# EAGLE library part AS-ITM-00054 (library tinycircuits)
W2SG0008i GPS Module
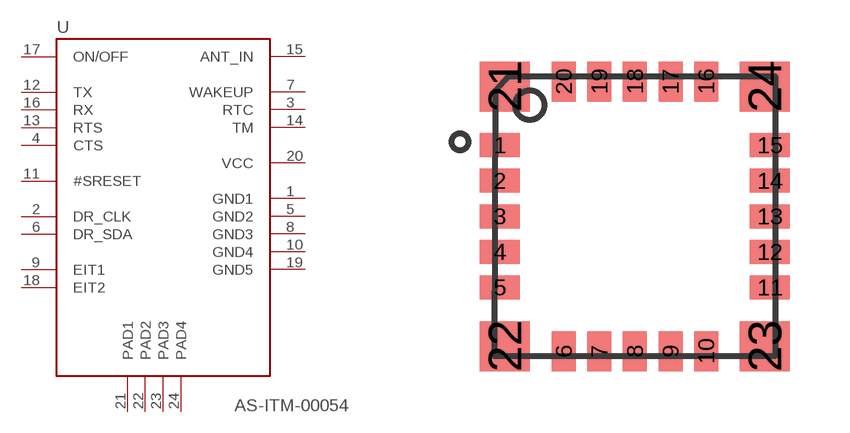
[diagram p27: symbol with the pads of W2SG0008I; footprint W2SG0008I]

Designator prefix U

## AS-ITM-00054 (PARTNO: AS-ITM-00054; VALUE: W2SG0008i)  [W2SG0008I]
1  GND1  pwr
2  DR_CLK
3  RTC
4  CTS
5  GND2  pwr
6  DR_SDA
7  WAKEUP
8  GND3  pwr
9  EIT1
10  GND4  pwr
11  #SRESET
12  TX
13  RTS
14  TM
15  ANT_IN
16  RX
17  ON/OFF
18  EIT2
19  GND5  pwr
20  VCC  pwr
21  PAD1  pwr
22  PAD2  pwr
23  PAD3  pwr
24  PAD4  pwr

## Footprint W2SG0008I (pad centres in mm)
smd 1 x 0.6: 1 -3.375,1.78; 2 -3.375,0.89; 3 -3.375,0; 4 -3.375,-0.89; 5 -3.375,-1.78; 11 3.375,-1.78; 12 3.375,-0.89; 13 3.375,0; 14 3.375,0.89; 15 3.375,1.78
smd 0.6 x 1: 6 -1.78,-3.375; 7 -0.89,-3.375; 8 0,-3.375; 9 0.89,-3.375; 10 1.78,-3.375; 16 1.78,3.375; 17 0.89,3.375; 18 0,3.375; 19 -0.89,3.375; 20 -1.78,3.375
smd 1.25 x 1.25: 21 -3.25,3.25; 22 -3.25,-3.25; 23 3.25,-3.25; 24 3.25,3.25